# EAGLE library part SFMC-116-X1-XX-D (library UsefulConnectors)
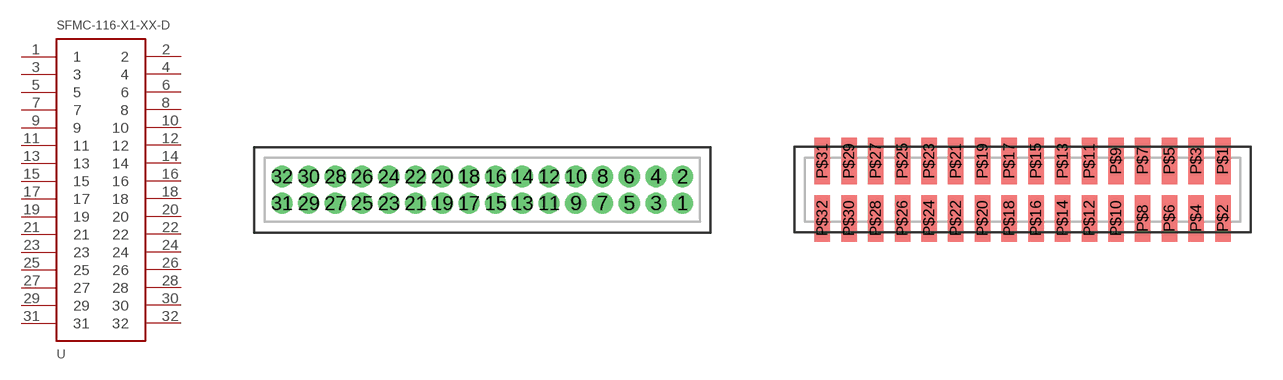
[diagram p12: symbol with the pads of SFMC-116-X1-XX-D; footprints SFMC-116-X1-XX-D, SFMC-116-X2-XX-D]

Designator prefix -

## SFMC-116-X1-XX-DTHROUGH-HOLE  [SFMC-116-X1-XX-D]
1  1
2  2
3  3
4  4
5  5
6  6
7  7
8  8
9  9
10  10
11  11
12  12
13  13
14  14
15  15
16  16
17  17
18  18
19  19
20  20
21  21
22  22
23  23
24  24
25  25
26  26
27  27
28  28
29  29
30  30
31  31
32  32

## SFMC-116-X1-XX-DSURFACE-MOUNT  [SFMC-116-X2-XX-D]
P$1  1
P$2  2
P$3  3
P$4  4
P$5  5
P$6  6
P$7  7
P$8  8
P$9  9
P$10  10
P$11  11
P$12  12
P$13  13
P$14  14
P$15  15
P$16  16
P$17  17
P$18  18
P$19  19
P$20  20
P$21  21
P$22  22
P$23  23
P$24  24
P$25  25
P$26  26
P$27  27
P$28  28
P$29  29
P$30  30
P$31  31
P$32  32

## Footprint SFMC-116-X1-XX-D (pad centres in mm)
drill 0.5 pad 0.813: 1 9.525,-0.635; 2 9.525,0.635; 3 8.255,-0.635; 4 8.255,0.635; 5 6.985,-0.635; 6 6.985,0.635; 7 5.715,-0.635; 8 5.715,0.635; 9 4.445,-0.635; 10 4.445,0.635; 11 3.175,-0.635; 12 3.175,0.635; 13 1.905,-0.635; 14 1.905,0.635; 15 0.635,-0.635; 16 0.635,0.635; 17 -0.635,-0.635; 18 -0.635,0.635; 19 -1.905,-0.635; 20 -1.905,0.635; 21 -3.175,-0.635; 22 -3.175,0.635; 23 -4.445,-0.635; 24 -4.445,0.635; 25 -5.715,-0.635; 26 -5.715,0.635; 27 -6.985,-0.635; 28 -6.985,0.635; 29 -8.255,-0.635; 30 -8.255,0.635; 31 -9.525,-0.635; 32 -9.525,0.635

## Footprint SFMC-116-X2-XX-D (pad centres in mm)
smd 0.737 x 2.223: P$1 9.525,1.365; P$2 9.525,-1.365; P$3 8.255,1.365; P$4 8.255,-1.365; P$5 6.985,1.365; P$6 6.985,-1.365; P$7 5.715,1.365; P$8 5.715,-1.365; P$9 4.445,1.365; P$10 4.445,-1.365; P$11 3.175,1.365; P$12 3.175,-1.365; P$13 1.905,1.365; P$14 1.905,-1.365; P$15 0.635,1.365; P$16 0.635,-1.365; P$17 -0.635,1.365; P$18 -0.635,-1.365; P$19 -1.905,1.365; P$20 -1.905,-1.365; P$21 -3.175,1.365; P$22 -3.175,-1.365; P$23 -4.445,1.365; P$24 -4.445,-1.365; P$25 -5.715,1.365; P$26 -5.715,-1.365; P$27 -6.985,1.365; P$28 -6.985,-1.365; P$29 -8.255,1.365; P$30 -8.255,-1.365; P$31 -9.525,1.365; P$32 -9.525,-1.365